# EAGLE library part DRV10970 (library template_board)
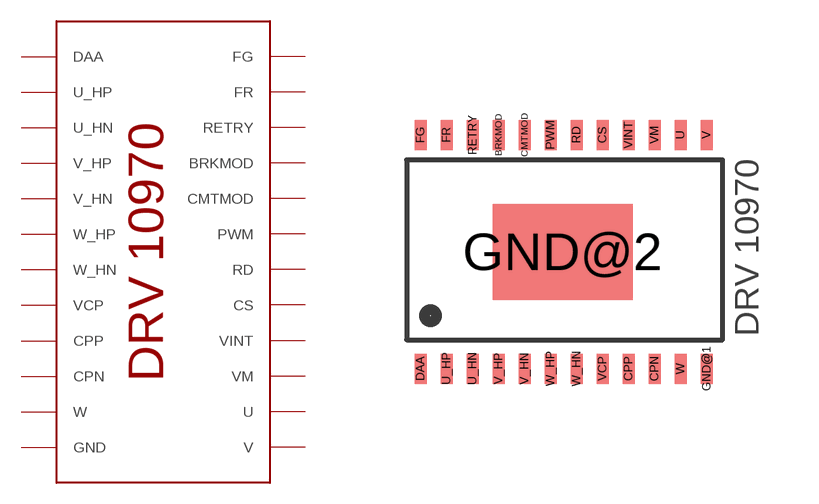
[diagram p8: symbol with the pads of DRV10970; footprint DRV10970]

Designator prefix U

## DRV10970  [DRV10970]
BRKMOD  BRKMOD
CMTMOD  CMTMOD
CPN  CPN
CPP  CPP
CS  CS
DAA  DAA
FG  FG
FR  FR
GND@1  GND
GND@2  GND
PWM  PWM
RD  RD
RETRY  RETRY
U  U
U_HN  U_HN
U_HP  U_HP
V  V
V_HN  V_HN
V_HP  V_HP
VCP  VCP
VINT  VINT
VM  VM
W  W
W_HN  W_HN
W_HP  W_HP

## Footprint DRV10970 (pad centres in mm)
smd 0.3 x 0.75: BRKMOD -1.6,2.925; CMTMOD -0.95,2.925; CPN 2.3,-2.925; CPP 1.65,-2.925; CS 1,2.925; DAA -3.55,-2.925; FG -3.55,2.925; FR -2.9,2.925; GND@1 3.6,-2.925; PWM -0.3,2.925; RD 0.35,2.925; RETRY -2.25,2.925; U 2.95,2.925; U_HN -2.25,-2.925; U_HP -2.9,-2.925; V 3.6,2.925; V_HN -0.95,-2.925; V_HP -1.6,-2.925; VCP 1,-2.925; VINT 1.65,2.925; VM 2.3,2.925; W 2.95,-2.925; W_HN 0.35,-2.925; W_HP -0.3,-2.925
smd 3.5 x 2.4: GND@2 0,0